# Altium footprint library swicth.PcbLib: 82 footprints (part 3 of 6)
Each footprint in its own frame and in the unit in brackets; x right, y up, seen from the top. Pads: shape width x height; smd on the part's side, far side on the other; paste and mask are expansions set on the pad; w line width, h text height; cw(c..) or ccw(c..) is an arc to the next point about the centre after c.
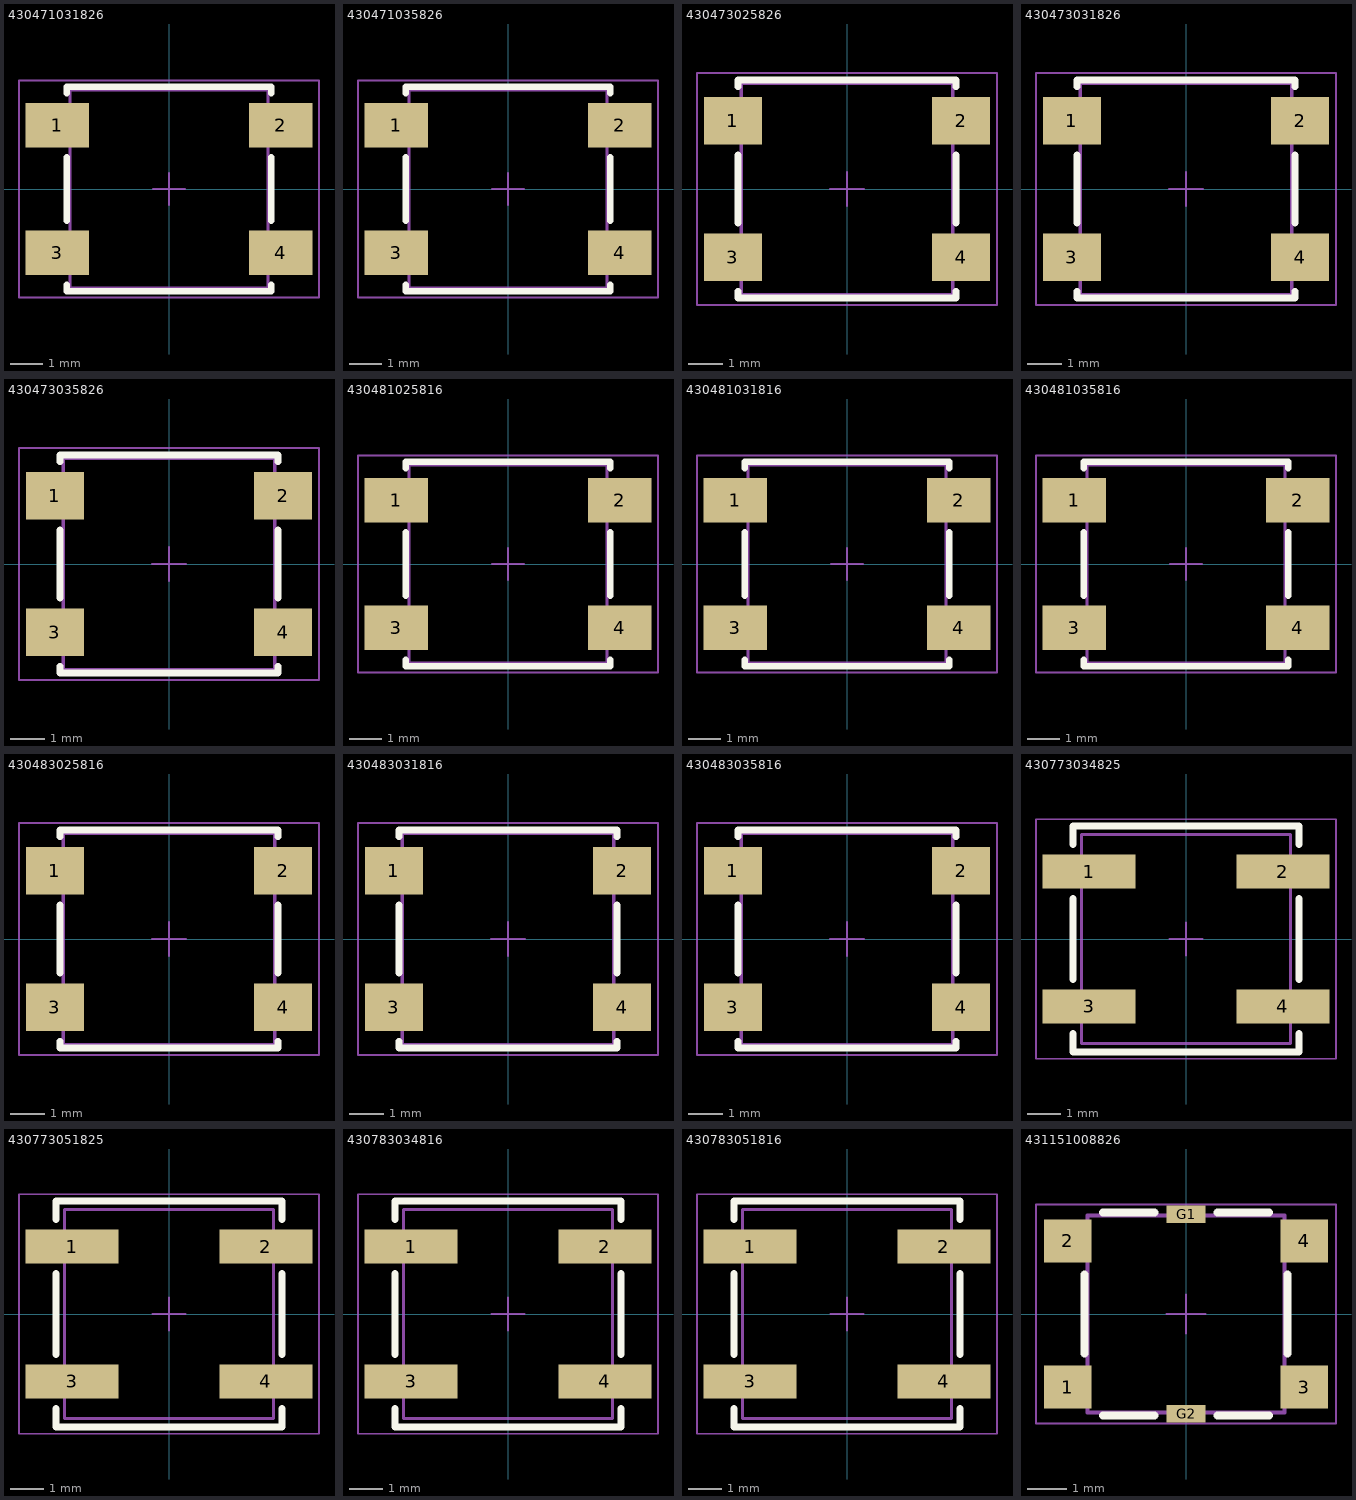
[diagram p2: the footprints below, top view; thin cyan lines are the x and y axes]

## 430471031826 [mm] "SMD Tact Switch, body 6x6mm"
height 3.1
pads (4):
  rect 2x1.4 smd: 1(-3.5,2) 2(3.5,2) 3(-3.5,-2) 4(3.5,-2)
Top Overlay:
  lines w0.2: -3.2,-3 -3.2,-3.2 3.2,-3.2 3.2,-3 ; -3.2,-1 -3.2,1 ; -3.2,3 -3.2,3.2 3.2,3.2 3.2,3 ; 3.2,-1 3.2,1
Mechanical 13:
  lines w0.1: -3.1,-2.35 -4,-2.35 -4,-1.65 -3.1,-1.65 ; -3.1,1.65 -4,1.65 -4,2.35 -3.1,2.35 ; 3.1,-2.35 4,-2.35 4,-1.65 3.1,-1.65 ; 3.1,1.65 4,1.65 4,2.35 3.1,2.35 ; -3.1,-3.1 -3.1,3.1 3.1,3.1 3.1,-3.1 -3.1,-3.1
Mechanical 15:
  lines w0.05: -0.5,0 0.5,0 ; 0,-0.5 0,0.5 ; -4.7,-3.4 4.7,-3.4 4.7,3.4 -4.7,3.4 -4.7,-3.4
3D body "4304x10318x6.stp": height 3.1, standoff 0, extent -4,-3.1 4,3.1

## 430471035826 [mm] "SMD Tact Switch, body 6x6mm"
height 3.5
pads (4):
  rect 2x1.4 smd: 1(-3.5,2) 2(3.5,2) 3(-3.5,-2) 4(3.5,-2)
Top Overlay:
  lines w0.2: -3.2,-3 -3.2,-3.2 3.2,-3.2 3.2,-3 ; -3.2,-1 -3.2,1 ; -3.2,3 -3.2,3.2 3.2,3.2 3.2,3 ; 3.2,-1 3.2,1
Mechanical 13:
  lines w0.1: -3.1,-2.35 -4,-2.35 -4,-1.65 -3.1,-1.65 ; -3.1,1.65 -4,1.65 -4,2.35 -3.1,2.35 ; 3.1,-2.35 4,-2.35 4,-1.65 3.1,-1.65 ; 3.1,1.65 4,1.65 4,2.35 3.1,2.35 ; -3.1,-3.1 -3.1,3.1 3.1,3.1 3.1,-3.1 -3.1,-3.1
Mechanical 15:
  lines w0.05: -0.5,0 0.5,0 ; 0,-0.5 0,0.5 ; -4.7,-3.4 -4.7,3.4 4.7,3.4 4.7,-3.4 -4.7,-3.4
3D body "4304x10358x6.stp": height 3.5, standoff 0, extent -4,-3.1 4,3.1

## 430473025826 [mm] "SMD Tact Switch, body 6x6mm"
height 2.5
pads (4):
  rect 1.7x1.4 smd: 1(-3.35,2) 2(3.35,2) 3(-3.35,-2) 4(3.35,-2)
Top Overlay:
  lines w0.2: -3.2,-3 -3.2,-3.2 3.2,-3.2 3.2,-3 ; -3.2,-1 -3.2,1 ; -3.2,3 -3.2,3.2 3.2,3.2 3.2,3 ; 3.2,-1 3.2,1
Mechanical 13:
  lines w0.1: -3.1,-3.1 3.1,-3.1 3.1,3.1 -3.1,3.1 -3.1,-3.1
Mechanical 15:
  lines w0.05: -0.5,0 0.5,0 ; 0,-0.5 0,0.5 ; -4.4,-3.4 4.4,-3.4 4.4,3.4 -4.4,3.4 -4.4,-3.4
3D body "4304x30258x6.stp": height 2.5, standoff 0, extent -3.6,-3.1 3.6,3.1

## 430473031826 [mm] "SMD Tact Switch, body 6x6mm"
height 3.1
pads (4):
  rect 1.7x1.4 smd: 1(-3.35,2) 2(3.35,2) 3(-3.35,-2) 4(3.35,-2)
Top Overlay:
  lines w0.2: -3.2,-3 -3.2,-3.2 3.2,-3.2 3.2,-3 ; -3.2,-1 -3.2,1 ; -3.2,3 -3.2,3.2 3.2,3.2 3.2,3 ; 3.2,-1 3.2,1
Mechanical 13:
  lines w0.1: -3.1,-3.1 -3.1,3.1 3.1,3.1 3.1,-3.1 -3.1,-3.1
Mechanical 15:
  lines w0.05: -0.5,0 0.5,0 ; 0,-0.5 0,0.5 ; -4.4,-3.4 4.4,-3.4 4.4,3.4 -4.4,3.4 -4.4,-3.4
3D body "4304x30318x6.stp": height 3.1, standoff 0, extent -3.6,-3.1 3.6,3.1

## 430473035826 [mm] "SMD Tact Switch, body 6x6mm"
height 3.5
pads (4):
  rect 1.7x1.4 smd: 1(-3.35,2) 2(3.35,2) 3(-3.35,-2) 4(3.35,-2)
Top Overlay:
  lines w0.2: -3.2,-3 -3.2,-3.2 3.2,-3.2 3.2,-3 ; -3.2,-1 -3.2,1 ; -3.2,3 -3.2,3.2 3.2,3.2 3.2,3 ; 3.2,-1 3.2,1
Mechanical 13:
  lines w0.1: -3.1,-3.1 -3.1,3.1 3.1,3.1 3.1,-3.1 -3.1,-3.1
Mechanical 15:
  lines w0.05: -0.5,0 0.5,0 ; 0,-0.5 0,0.5 ; -4.4,-3.4 -4.4,3.4 4.4,3.4 4.4,-3.4 -4.4,-3.4
3D body "4304x30358x6.stp": height 3.5, standoff 0, extent -3.6,-3.1 3.6,3.1

## 430481025816 [mm] "SMD Tact Switch, body 6x6mm"
height 2.5
pads (4):
  rect 2x1.4 smd: 1(-3.5,2) 2(3.5,2) 3(-3.5,-2) 4(3.5,-2)
Top Overlay:
  lines w0.2: -3.2,-3 -3.2,-3.2 3.2,-3.2 3.2,-3 ; -3.2,-1 -3.2,1 ; -3.2,3 -3.2,3.2 3.2,3.2 3.2,3 ; 3.2,-1 3.2,1
Mechanical 13:
  lines w0.1: -3.1,-2.35 -4,-2.35 -4,-1.65 -3.1,-1.65 ; -3.1,1.65 -4,1.65 -4,2.35 -3.1,2.35 ; 3.1,-2.35 4,-2.35 4,-1.65 3.1,-1.65 ; 3.1,1.65 4,1.65 4,2.35 3.1,2.35 ; -3.1,-3.1 -3.1,3.1 3.1,3.1 3.1,-3.1 -3.1,-3.1
Mechanical 15:
  lines w0.05: -0.5,0 0.5,0 ; 0,-0.5 0,0.5 ; -4.7,-3.4 -4.7,3.4 4.7,3.4 4.7,-3.4 -4.7,-3.4
3D body "4304x10258x6.stp": height 2.5, standoff 0, extent -4,-3.1 4,3.1

## 430481031816 [mm] "SMD Tact Switch, body 6x6mm"
height 3.1
pads (4):
  rect 2x1.4 smd: 1(-3.5,2) 2(3.5,2) 3(-3.5,-2) 4(3.5,-2)
Top Overlay:
  lines w0.2: -3.2,-3 -3.2,-3.2 3.2,-3.2 3.2,-3 ; -3.2,-1 -3.2,1 ; -3.2,3 -3.2,3.2 3.2,3.2 3.2,3 ; 3.2,-1 3.2,1
Mechanical 13:
  lines w0.1: -3.1,-2.35 -4,-2.35 -4,-1.65 -3.1,-1.65 ; -3.1,1.65 -4,1.65 -4,2.35 -3.1,2.35 ; 3.1,-2.35 4,-2.35 4,-1.65 3.1,-1.65 ; 3.1,1.65 4,1.65 4,2.35 3.1,2.35 ; -3.1,-3.1 3.1,-3.1 3.1,3.1 -3.1,3.1 -3.1,-3.1
Mechanical 15:
  lines w0.05: -0.5,0 0.5,0 ; 0,-0.5 0,0.5 ; -4.7,-3.4 -4.7,3.4 4.7,3.4 4.7,-3.4 -4.7,-3.4
3D body "4304x10318x6.stp": height 3.1, standoff 0, extent -4,-3.1 4,3.1

## 430481035816 [mm] "SMD Tact Switch, body 6x6mm"
height 3.5
pads (4):
  rect 2x1.4 smd: 1(-3.5,2) 2(3.5,2) 3(-3.5,-2) 4(3.5,-2)
Top Overlay:
  lines w0.2: -3.2,-3 -3.2,-3.2 3.2,-3.2 3.2,-3 ; -3.2,-1 -3.2,1 ; -3.2,3 -3.2,3.2 3.2,3.2 3.2,3 ; 3.2,-1 3.2,1
Mechanical 13:
  lines w0.1: -3.1,-2.35 -4,-2.35 -4,-1.65 -3.1,-1.65 ; -3.1,1.65 -4,1.65 -4,2.35 -3.1,2.35 ; 3.1,-2.35 4,-2.35 4,-1.65 3.1,-1.65 ; 3.1,1.65 4,1.65 4,2.35 3.1,2.35 ; -3.1,-3.1 3.1,-3.1 3.1,3.1 -3.1,3.1 -3.1,-3.1
Mechanical 15:
  lines w0.05: -0.5,0 0.5,0 ; 0,-0.5 0,0.5 ; -4.7,-3.4 4.7,-3.4 4.7,3.4 -4.7,3.4 -4.7,-3.4
3D body "4304x10358x6.stp": height 3.5, standoff 0, extent -4,-3.1 4,3.1

## 430483025816 [mm] "SMD Tact Switch, body 6x6mm"
height 2.5
pads (4):
  rect 1.7x1.4 smd: 1(-3.35,2) 2(3.35,2) 3(-3.35,-2) 4(3.35,-2)
Top Overlay:
  lines w0.2: -3.2,-3 -3.2,-3.2 3.2,-3.2 3.2,-3 ; -3.2,-1 -3.2,1 ; -3.2,3 -3.2,3.2 3.2,3.2 3.2,3 ; 3.2,-1 3.2,1
Mechanical 13:
  lines w0.1: -3.1,-3.1 -3.1,3.1 3.1,3.1 3.1,-3.1 -3.1,-3.1
Mechanical 15:
  lines w0.05: -0.5,0 0.5,0 ; 0,-0.5 0,0.5 ; -4.4,-3.4 -4.4,3.4 4.4,3.4 4.4,-3.4 -4.4,-3.4
3D body "4304x30258x6.stp": height 2.5, standoff 0, extent -3.6,-3.1 3.6,3.1

## 430483031816 [mm] "SMD Tact Switch, body 6x6mm"
height 3.1
pads (4):
  rect 1.7x1.4 smd: 1(-3.35,2) 2(3.35,2) 3(-3.35,-2) 4(3.35,-2)
Top Overlay:
  lines w0.2: -3.2,-3 -3.2,-3.2 3.2,-3.2 3.2,-3 ; -3.2,-1 -3.2,1 ; -3.2,3 -3.2,3.2 3.2,3.2 3.2,3 ; 3.2,-1 3.2,1
Mechanical 13:
  lines w0.1: -3.1,-3.1 -3.1,3.1 3.1,3.1 3.1,-3.1 -3.1,-3.1
Mechanical 15:
  lines w0.05: -0.5,0 0.5,0 ; 0,-0.5 0,0.5 ; -4.4,-3.4 4.4,-3.4 4.4,3.4 -4.4,3.4 -4.4,-3.4
3D body "4304x30318x6.stp": height 3.1, standoff 0, extent -3.6,-3.1 3.6,3.1

## 430483035816 [mm] "SMD Tact Switch, body 6x6mm"
height 3.5
pads (4):
  rect 1.7x1.4 smd: 1(-3.35,2) 2(3.35,2) 3(-3.35,-2) 4(3.35,-2)
Top Overlay:
  lines w0.2: -3.2,-3 -3.2,-3.2 3.2,-3.2 3.2,-3 ; -3.2,-1 -3.2,1 ; -3.2,3 -3.2,3.2 3.2,3.2 3.2,3 ; 3.2,-1 3.2,1
Mechanical 13:
  lines w0.1: -3.1,-3.1 -3.1,3.1 3.1,3.1 3.1,-3.1 -3.1,-3.1
Mechanical 15:
  lines w0.05: -0.5,0 0.5,0 ; 0,-0.5 0,0.5 ; -4.4,-3.4 -4.4,3.4 4.4,3.4 4.4,-3.4 -4.4,-3.4
3D body "4304x30358x6.stp": height 3.5, standoff 0, extent -3.6,-3.1 3.6,3.1

## 430773034825 [mm] "SMD Tact Switch, body 6x6mm"
height 3.4
pads (4):
  rect 2.75x1 smd: 1(-2.875,2) 2(2.875,2) 3(-2.875,-2) 4(2.875,-2)
Top Overlay:
  lines w0.2: -3.35,-2.8 -3.35,-3.35 3.35,-3.35 3.35,-2.8 ; -3.35,-1.2 -3.35,1.2 ; -3.35,2.8 -3.35,3.35 3.35,3.35 3.35,2.8 ; 3.35,-1.2 3.35,1.2
Mechanical 13:
  lines w0.1: -3.1,-3.1 -3.1,3.1 3.1,3.1 3.1,-3.1 -3.1,-3.1
Mechanical 15:
  lines w0.05: -0.5,0 0.5,0 ; 0,-0.5 0,0.5 ; -4.45,-3.55 4.45,-3.55 4.45,3.55 -4.45,3.55 -4.45,-3.55
3D body "4307x30xx8xx_3_4.stp": height 3.4, standoff 0, extent -3.4,-3.1 3.4,3.1

## 430773051825 [mm] "SMD Tact Switch, body 6x6mm"
height 5.1
pads (4):
  rect 2.75x1 smd: 1(-2.875,2) 2(2.875,2) 3(-2.875,-2) 4(2.875,-2)
Top Overlay:
  lines w0.2: -3.35,-2.8 -3.35,-3.35 3.35,-3.35 3.35,-2.8 ; -3.35,-1.2 -3.35,1.2 ; -3.35,2.8 -3.35,3.35 3.35,3.35 3.35,2.8 ; 3.35,-1.2 3.35,1.2
Mechanical 13:
  lines w0.1: -3.1,-3.1 -3.1,3.1 3.1,3.1 3.1,-3.1 -3.1,-3.1
Mechanical 15:
  lines w0.05: -0.5,0 0.5,0 ; 0,-0.5 0,0.5 ; -4.45,-3.55 -4.45,3.55 4.45,3.55 4.45,-3.55 -4.45,-3.55
3D body "4307x30xx8xx_5_1.stp": height 5.1, standoff 0, extent -3.4,-3.1 3.4,3.1

## 430783034816 [mm] "SMD Tact Switch, body 6x6mm"
height 3.4
pads (4):
  rect 2.75x1 smd: 1(-2.875,2) 2(2.875,2) 3(-2.875,-2) 4(2.875,-2)
Top Overlay:
  lines w0.2: -3.35,-2.8 -3.35,-3.35 3.35,-3.35 3.35,-2.8 ; -3.35,-1.2 -3.35,1.2 ; -3.35,2.8 -3.35,3.35 3.35,3.35 3.35,2.8 ; 3.35,-1.2 3.35,1.2
Mechanical 13:
  lines w0.1: -3.1,-3.1 -3.1,3.1 3.1,3.1 3.1,-3.1 -3.1,-3.1
Mechanical 15:
  lines w0.05: -0.5,0 0.5,0 ; 0,-0.5 0,0.5 ; -4.45,-3.55 4.45,-3.55 4.45,3.55 -4.45,3.55 -4.45,-3.55
3D body "4307x30xx8xx_3_4.stp": height 3.4, standoff 0, extent -3.4,-3.1 3.4,3.1

## 430783051816 [mm] "SMD Tact Switch, body 6x6mm"
height 5.1
pads (4):
  rect 2.75x1 smd: 1(-2.875,2) 2(2.875,2) 3(-2.875,-2) 4(2.875,-2)
Top Overlay:
  lines w0.2: -3.35,-2.8 -3.35,-3.35 3.35,-3.35 3.35,-2.8 ; -3.35,-1.2 -3.35,1.2 ; -3.35,2.8 -3.35,3.35 3.35,3.35 3.35,2.8 ; 3.35,-1.2 3.35,1.2
Mechanical 13:
  lines w0.1: -3.1,-3.1 -3.1,3.1 3.1,3.1 3.1,-3.1 -3.1,-3.1
Mechanical 15:
  lines w0.05: -0.5,0 0.5,0 ; 0,-0.5 0,0.5 ; -4.45,-3.55 -4.45,3.55 4.45,3.55 4.45,-3.55 -4.45,-3.55
3D body "4307x30xx8xx_5_1.stp": height 5.1, standoff 0, extent -3.4,-3.1 3.4,3.1

## 431151008826 [mm] "Tact Switch, SMD, body 5x5mm"
height 0.8
pads (6):
  rect 1.2x1.1 smd: 1(-3,-1.85) 2(-3,1.85) 3(3,-1.85) 4(3,1.85)
  rect 1x0.45 smd: G1(0,2.525) G2(0,-2.525)
Top Overlay:
  lines w0.2: -2.575,-1 -2.575,1 ; -2.1,-2.575 -0.8,-2.575 ; -2.1,2.575 -0.8,2.575 ; 0.8,-2.575 2.1,-2.575 ; 0.8,2.575 2.1,2.575 ; 2.575,-1 2.575,1
Mechanical 13:
  lines w0.1: -2.5,-2.1 -3.1,-2.1 -3.1,-1.6 -2.5,-1.6 ; -2.5,1.6 -3.1,1.6 -3.1,2.1 -2.5,2.1 ; 2.5,-2.1 3.1,-2.1 3.1,-1.6 2.5,-1.6 ; 2.5,1.6 3.1,1.6 3.1,2.1 2.5,2.1 ; -2.5,-2.5 -2.5,2.5 2.5,2.5 2.5,-2.5 -2.5,-2.5
Mechanical 15:
  lines w0.05: -0.5,0 0.5,0 ; 0,-0.5 0,0.5 ; -3.8,-2.775 -3.8,2.775 3.8,2.775 3.8,-2.775 -3.8,-2.775
3D body "4311x10088x6.stp": height 0.8, standoff 0, extent -3.1,-2.5 3.1,2.5